# EAGLE library part STP16CP05 (library Synapseware)
Low voltage 16-bit constant current LED sink driver The STP16CP05 is a monolithic, low voltage, low current power 16-bit shift register designed for LED panel displays. The STP16CP05 contains a 16-bit serial-in, parallel-out shift register that feeds a 16-bit, D-type storage register. In the output stage, sixteen regulated current sources provide from 5 mA to 100 mA constant current to drive the LEDs.
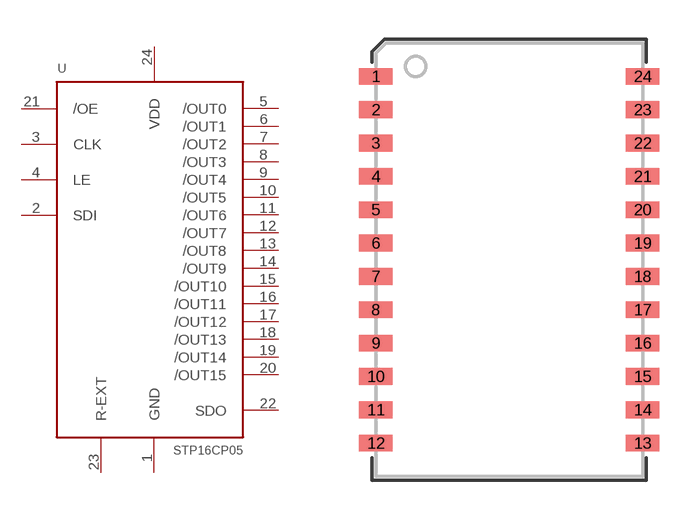
[diagram p2: symbol with the pads of SO-24; footprint SO-24]

Designator prefix -

## STP16CP05SO-24  [SO-24]
1  GND
2  SDI
3  CLK
4  LE
5  /OUT0
6  /OUT1
7  /OUT2
8  /OUT3
9  /OUT4
10  /OUT5
11  /OUT6
12  /OUT7
13  /OUT8
14  /OUT9
15  /OUT10
16  /OUT11
17  /OUT12
18  /OUT13
19  /OUT14
20  /OUT15
21  /OE
22  SDO
23  R-EXT
24  VDD

## Footprint SO-24 (pad centres in mm)
Standard So-24 package, untested.
smd 1.27 x 0.635: 1 -5.08,7.62; 2 -5.08,6.35; 3 -5.08,5.08; 4 -5.08,3.81; 5 -5.08,2.54; 6 -5.08,1.27; 7 -5.08,0; 8 -5.08,-1.27; 9 -5.08,-2.54; 10 -5.08,-3.81; 11 -5.08,-5.08; 12 -5.08,-6.35; 13 5.08,-6.35; 14 5.08,-5.08; 15 5.08,-3.81; 16 5.08,-2.54; 17 5.08,-1.27; 18 5.08,0; 19 5.08,1.27; 20 5.08,2.54; 21 5.08,3.81; 22 5.08,5.08; 23 5.08,6.35; 24 5.08,7.62